# Altium footprint library atmel.PCBLIB: 60 footprints (part 4 of 4)
Each footprint in its own frame and in the unit in brackets; x right, y up, seen from the top. Pads: shape width x height; smd on the part's side, far side on the other; paste and mask are expansions set on the pad; w line width, h text height; cw(c..) or ccw(c..) is an arc to the next point about the centre after c.
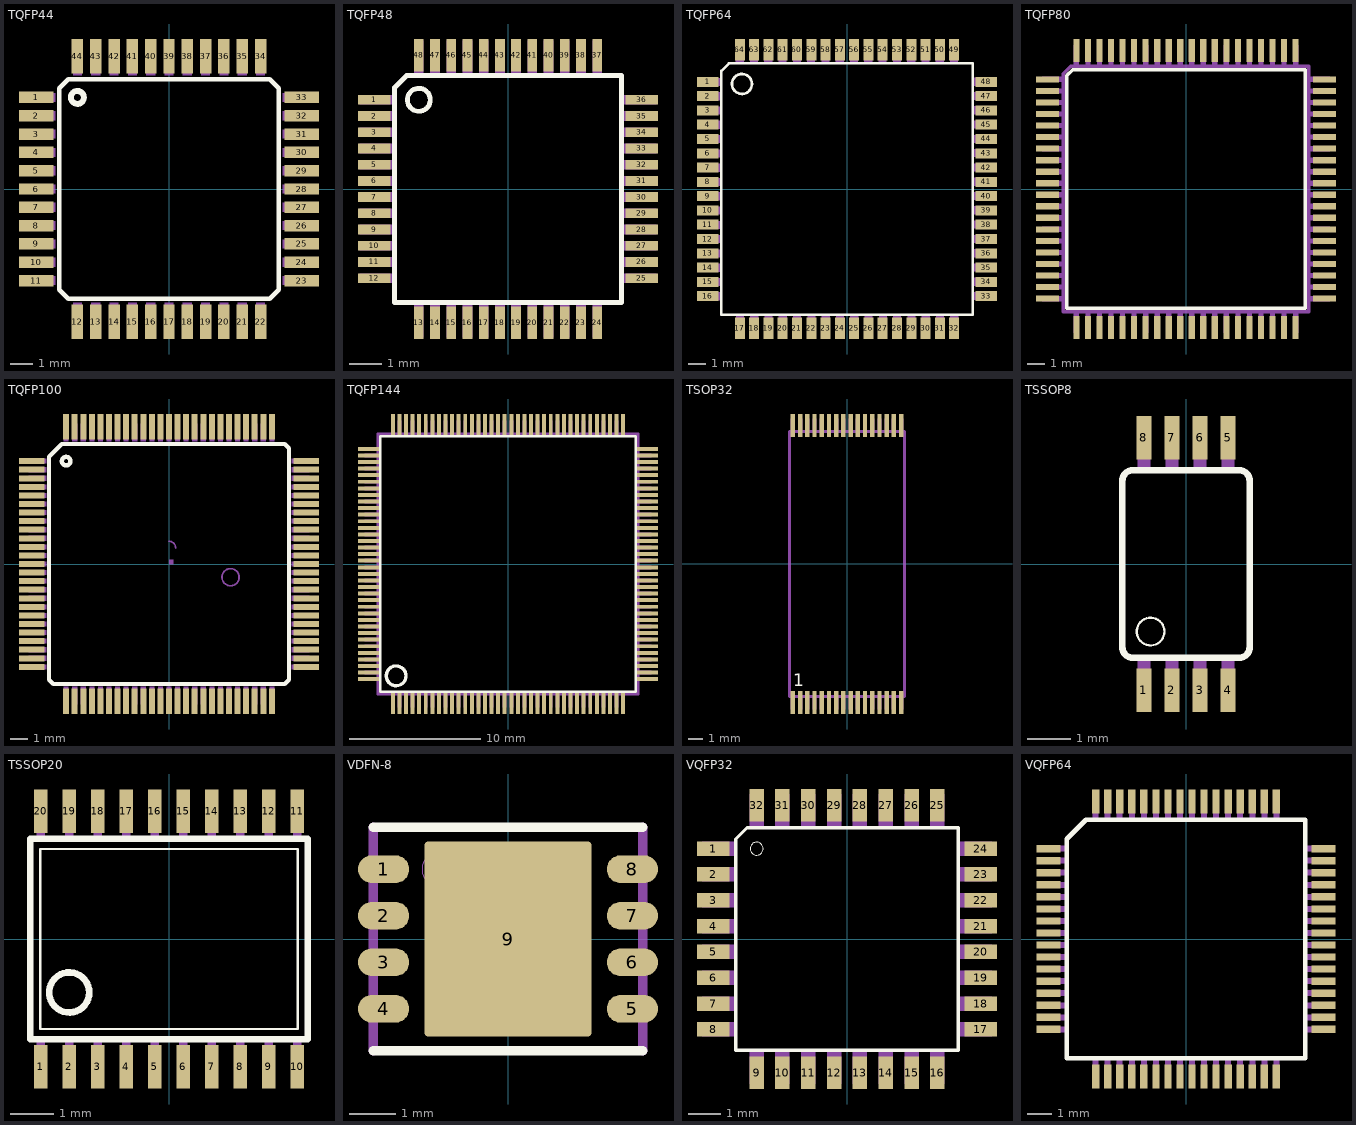
[diagram p3: the footprints below, top view; thin cyan lines are the x and y axes]

## TQFP44 [mm]
pads (44):
  rect 1.5x0.5 smd: 1(-5.8,4) 2(-5.8,3.2) 3(-5.8,2.4) 4(-5.8,1.6) 5(-5.8,0.8) 6(-5.8,0) 7(-5.8,-0.8) 8(-5.8,-1.6) 9(-5.8,-2.4) 10(-5.8,-3.2) 11(-5.8,-4) 23(5.8,-4) 24(5.8,-3.2) 25(5.8,-2.4) 26(5.8,-1.6) 27(5.8,-0.8) 28(5.8,0) 29(5.8,0.8) 30(5.8,1.6) 31(5.8,2.4) 32(5.8,3.2) 33(5.8,4)
  rect 0.5x1.5 smd: 12(-4,-5.8) 13(-3.2,-5.8) 14(-2.4,-5.8) 15(-1.6,-5.8) 16(-0.8,-5.8) 17(0,-5.8) 18(0.8,-5.8) 19(1.6,-5.8) 20(2.4,-5.8) 21(3.2,-5.8) 22(4,-5.8) 34(4,5.8) 35(3.2,5.8) 36(2.4,5.8) 37(1.6,5.8) 38(0.8,5.8) 39(0,5.8) 40(-0.8,5.8) 41(-1.6,5.8) 42(-2.4,5.8) 43(-3.2,5.8) 44(-4,5.8)
Top Overlay:
  circle w0.254: c-4,4 r0.283
  lines w0.203: -4.8,-4.4 -4.4,-4.8 4.4,-4.8 4.8,-4.4 4.8,4.4 4.4,4.8 -4.4,4.8 -4.8,4.4 -4.8,-4.4
Mechanical 16:
  rectangle: -6.1,3.8 -4.95,4.2
  rectangle: -6.1,3 -4.95,3.4
  rectangle: -6.1,2.2 -4.95,2.6
  rectangle: -6.1,1.4 -4.95,1.8
  rectangle: -6.1,0.6 -4.95,1
  rectangle: -6.1,-0.2 -4.95,0.2
  rectangle: -6.1,-1 -4.95,-0.6
  rectangle: -6.1,-1.8 -4.95,-1.4
  rectangle: -6.1,-2.6 -4.95,-2.2
  rectangle: -6.1,-3.4 -4.95,-3
  rectangle: -6.1,-4.2 -4.95,-3.8
  rectangle: -4.2,-6.1 -3.8,-4.95
  rectangle: -3.4,-6.1 -3,-4.95
  rectangle: -2.6,-6.1 -2.2,-4.95
  rectangle: -1.8,-6.1 -1.4,-4.95
  rectangle: -1,-6.1 -0.6,-4.95
  rectangle: -0.2,-6.1 0.2,-4.95
  rectangle: 0.6,-6.1 1,-4.95
  rectangle: 1.4,-6.1 1.8,-4.95
  rectangle: 2.2,-6.1 2.6,-4.95
  rectangle: 3,-6.1 3.4,-4.95
  rectangle: 3.8,-6.1 4.2,-4.95
  rectangle: 4.95,-4.2 6.1,-3.8
  rectangle: 4.95,-3.4 6.1,-3
  rectangle: 4.95,-2.6 6.1,-2.2
  rectangle: 4.95,-1.8 6.1,-1.4
  rectangle: 4.95,-1 6.1,-0.6
  rectangle: 4.95,-0.2 6.1,0.2
  rectangle: 4.95,0.6 6.1,1
  rectangle: 4.95,1.4 6.1,1.8
  rectangle: 4.95,2.2 6.1,2.6
  rectangle: 4.95,3 6.1,3.4
  rectangle: 4.95,3.8 6.1,4.2
  rectangle: 3.8,4.95 4.2,6.1
  rectangle: 3,4.95 3.4,6.1
  rectangle: 2.2,4.95 2.6,6.1
  rectangle: 1.4,4.95 1.8,6.1
  rectangle: 0.6,4.95 1,6.1
  rectangle: -0.2,4.95 0.2,6.1
  rectangle: -1,4.95 -0.6,6.1
  rectangle: -1.8,4.95 -1.4,6.1
  rectangle: -2.6,4.95 -2.2,6.1
  rectangle: -3.4,4.95 -3,6.1
  rectangle: -4.2,4.95 -3.8,6.1

## TQFP48 [mil]
pads (48):
  rect 40x12 smd: 1(-165,110) 2(-165,90) 3(-165,70) 4(-165,50) 5(-165,30) 6(-165,10) 7(-165,-10) 8(-165,-30) 9(-165,-50) 10(-165,-70) 11(-165,-90) 12(-165,-110) 25(165,-110) 26(165,-90) 27(165,-70) 28(165,-50) 29(165,-30) 30(165,-10) 31(165,10) 32(165,30) 33(165,50) 34(165,70) 35(165,90) 36(165,110)
  rect 12x40 smd: 13(-110,-165) 14(-90,-165) 15(-70,-165) 16(-50,-165) 17(-30,-165) 18(-10,-165) 19(10,-165) 20(30,-165) 21(50,-165) 22(70,-165) 23(90,-165) 24(110,-165) 37(110,165) 38(90,165) 39(70,165) 40(50,165) 41(30,165) 42(10,165) 43(-10,165) 44(-30,165) 45(-50,165) 46(-70,165) 47(-90,165) 48(-110,165)
Top Overlay:
  circle w6: c-110,110 r14.14
  lines w6: -140,-140 140,-140 140,140 -125,140 -140,125 -140,-140
Mechanical 16:
  rectangle: 141,4 183,16
  rectangle: 141,24 183,36
  rectangle: 141,44 183,56
  rectangle: 141,64 183,76
  rectangle: 141,84 183,96
  rectangle: 141,104 183,116
  rectangle: 141,-16 183,-4
  rectangle: 141,-36 183,-24
  rectangle: 141,-56 183,-44
  rectangle: 141,-76 183,-64
  rectangle: 141,-96 183,-84
  rectangle: 141,-116 183,-104
  rectangle: -183,-16 -141,-4
  rectangle: -183,-36 -141,-24
  rectangle: -183,-56 -141,-44
  rectangle: -183,-76 -141,-64
  rectangle: -183,-96 -141,-84
  rectangle: -183,-116 -141,-104
  rectangle: -183,4 -141,16
  rectangle: -183,24 -141,36
  rectangle: -183,44 -141,56
  rectangle: -183,64 -141,76
  rectangle: -183,84 -141,96
  rectangle: -183,104 -141,116
  rectangle: -16,141 -4,183
  rectangle: -36,141 -24,183
  rectangle: -56,141 -44,183
  rectangle: -76,141 -64,183
  rectangle: -96,141 -84,183
  rectangle: -116,141 -104,183
  rectangle: 4,141 16,183
  rectangle: 24,141 36,183
  rectangle: 44,141 56,183
  rectangle: 64,141 76,183
  rectangle: 84,141 96,183
  rectangle: 104,141 116,183
  rectangle: 4,-183 16,-141
  rectangle: 24,-183 36,-141
  rectangle: 44,-183 56,-141
  rectangle: 64,-183 76,-141
  rectangle: 84,-183 96,-141
  rectangle: 104,-183 116,-141
  rectangle: -16,-183 -4,-141
  rectangle: -36,-183 -24,-141
  rectangle: -56,-183 -44,-141
  rectangle: -76,-183 -64,-141
  rectangle: -96,-183 -84,-141
  rectangle: -116,-183 -104,-141

## TQFP64 [mil]
pads (64):
  rect 47x22 smd: 1(-307.09,236.22) 2(-307.09,204.72) 3(-307.09,173.23) 4(-307.09,141.73) 5(-307.09,110.24) 6(-307.09,78.74) 7(-307.09,47.24) 8(-307.09,15.75) 9(-307.09,-15.75) 10(-307.09,-47.24) 11(-307.09,-78.74) 12(-307.09,-110.24) 13(-307.09,-141.73) 14(-307.09,-173.23) 15(-307.09,-204.72) 16(-307.09,-236.22) 33(307.09,-236.22) 34(307.09,-204.72) 35(307.09,-173.23) 36(307.09,-141.73) 37(307.09,-110.24) 38(307.09,-78.74) 39(307.09,-47.24) 40(307.09,-15.75) 41(307.09,15.75) 42(307.09,47.24) 43(307.09,78.74) 44(307.09,110.24) 45(307.09,141.73) 46(307.09,173.23) 47(307.09,204.72) 48(307.09,236.22)
  rect 22x47 smd: 17(-236.22,-307.09) 18(-204.72,-307.09) 19(-173.23,-307.09) 20(-141.73,-307.09) 21(-110.24,-307.09) 22(-78.74,-307.09) 23(-47.24,-307.09) 24(-15.75,-307.09) 25(15.75,-307.09) 26(47.24,-307.09) 27(78.74,-307.09) 28(110.24,-307.09) 29(141.73,-307.09) 30(173.23,-307.09) 31(204.72,-307.09) 32(236.22,-307.09) 49(236.22,307.09) 50(204.72,307.09) 51(173.23,307.09) 52(141.73,307.09) 53(110.24,307.09) 54(78.74,307.09) 55(47.24,307.09) 56(15.75,307.09) 57(-15.75,307.09) 58(-47.24,307.09) 59(-78.74,307.09) 60(-110.24,307.09) 61(-141.73,307.09) 62(-173.23,307.09) 63(-204.72,307.09) 64(-236.22,307.09)
Top Overlay:
  circle w6: c-231.5,231.5 r22
  lines w6: -277.01,-277.01 277.01,-277.01 277.01,277.01 -260,277.01 -277.01,260 -277.01,-277.01
Mechanical 16:
  rectangle: -322,226.97 -279,244.97
  rectangle: -322,195.48 -279,213.48
  rectangle: -322,163.98 -279,181.98
  rectangle: -322,132.48 -279,150.48
  rectangle: -322,100.99 -279,118.99
  rectangle: -322,69.49 -279,87.49
  rectangle: -322,38 -279,56
  rectangle: -322,6.5 -279,24.5
  rectangle: -322,-25 -279,-7
  rectangle: -322,-56.49 -279,-38.49
  rectangle: -322,-87.99 -279,-69.99
  rectangle: -322,-119.48 -279,-101.48
  rectangle: -322,-150.98 -279,-132.98
  rectangle: -322,-182.48 -279,-164.48
  rectangle: -322,-213.97 -279,-195.97
  rectangle: -322,-245.47 -279,-227.47
  region: -226.97,-322 -226.97,-279 -244.97,-279 -244.97,-322
  region: -195.48,-322 -195.48,-279 -213.48,-279 -213.48,-322
  region: -163.98,-322 -163.98,-279 -181.98,-279 -181.98,-322
  region: -132.48,-322 -132.48,-279 -150.48,-279 -150.48,-322
  region: -100.99,-322 -100.99,-279 -118.99,-279 -118.99,-322
  region: -69.49,-322 -69.49,-279 -87.49,-279 -87.49,-322
  region: -38,-322 -38,-279 -56,-279 -56,-322
  region: -6.5,-322 -6.5,-279 -24.5,-279 -24.5,-322
  region: 25,-322 25,-279 7,-279 7,-322
  region: 56.49,-322 56.49,-279 38.49,-279 38.49,-322
  region: 87.99,-322 87.99,-279 69.99,-279 69.99,-322
  region: 119.48,-322 119.48,-279 101.48,-279 101.48,-322
  region: 150.98,-322 150.98,-279 132.98,-279 132.98,-322
  region: 182.48,-322 182.48,-279 164.48,-279 164.48,-322
  region: 213.97,-322 213.97,-279 195.97,-279 195.97,-322
  region: 245.47,-322 245.47,-279 227.47,-279 227.47,-322
  region: 322,-226.97 279,-226.97 279,-244.97 322,-244.97
  region: 322,-195.48 279,-195.48 279,-213.48 322,-213.48
  region: 322,-163.98 279,-163.98 279,-181.98 322,-181.98
  region: 322,-132.48 279,-132.48 279,-150.48 322,-150.48
  region: 322,-100.99 279,-100.99 279,-118.99 322,-118.99
  region: 322,-69.49 279,-69.49 279,-87.49 322,-87.49
  region: 322,-38 279,-38 279,-56 322,-56
  region: 322,-6.5 279,-6.5 279,-24.5 322,-24.5
  region: 322,25 279,25 279,7 322,7
  region: 322,56.49 279,56.49 279,38.49 322,38.49
  region: 322,87.99 279,87.99 279,69.99 322,69.99
  region: 322,119.48 279,119.48 279,101.48 322,101.48
  region: 322,150.98 279,150.98 279,132.98 322,132.98
  region: 322,182.48 279,182.48 279,164.48 322,164.48
  region: 322,213.97 279,213.97 279,195.97 322,195.97
  region: 322,245.47 279,245.47 279,227.47 322,227.47
  region: 226.97,322 226.97,279 244.97,279 244.97,322
  region: 195.48,322 195.48,279 213.48,279 213.48,322
  region: 163.98,322 163.98,279 181.98,279 181.98,322
  region: 132.48,322 132.48,279 150.48,279 150.48,322
  region: 100.99,322 100.99,279 118.99,279 118.99,322
  region: 69.49,322 69.49,279 87.49,279 87.49,322
  region: 38,322 38,279 56,279 56,322
  region: 6.5,322 6.5,279 24.5,279 24.5,322
  region: -25,322 -25,279 -7,279 -7,322
  region: -56.49,322 -56.49,279 -38.49,279 -38.49,322
  region: -87.99,322 -87.99,279 -69.99,279 -69.99,322
  region: -119.48,322 -119.48,279 -101.48,279 -101.48,322
  region: -150.98,322 -150.98,279 -132.98,279 -132.98,322
  region: -182.48,322 -182.48,279 -164.48,279 -164.48,322
  region: -213.97,322 -213.97,279 -195.97,279 -195.97,322
  region: -245.47,322 -245.47,279 -227.47,279 -227.47,322

## TQFP80 [mm]
pads (80):
  rect 1.3x0.35 smd: 1(-7.8,6.175) 2(-7.8,5.525) 3(-7.8,4.875) 4(-7.8,4.225) 5(-7.8,3.575) 6(-7.8,2.925) 7(-7.8,2.275) 8(-7.8,1.625) 9(-7.8,0.975) 10(-7.8,0.325) 11(-7.8,-0.325) 12(-7.8,-0.975) 13(-7.8,-1.625) 14(-7.8,-2.275) 15(-7.8,-2.925) 16(-7.8,-3.575) 17(-7.8,-4.225) 18(-7.8,-4.875) 19(-7.8,-5.525) 20(-7.8,-6.175) 41(7.8,-6.175) 42(7.8,-5.525) 43(7.8,-4.875) 44(7.8,-4.225) 45(7.8,-3.575) 46(7.8,-2.925) 47(7.8,-2.275) 48(7.8,-1.625) 49(7.8,-0.975) 50(7.8,-0.325) 51(7.8,0.325) 52(7.8,0.975) 53(7.8,1.625) 54(7.8,2.275) 55(7.8,2.925) 56(7.8,3.575) 57(7.8,4.225) 58(7.8,4.875) 59(7.8,5.525) 60(7.8,6.175)
  rect 0.35x1.3 smd: 21(-6.175,-7.8) 22(-5.525,-7.8) 23(-4.875,-7.8) 24(-4.225,-7.8) 25(-3.575,-7.8) 26(-2.925,-7.8) 27(-2.275,-7.8) 28(-1.625,-7.8) 29(-0.975,-7.8) 30(-0.325,-7.8) 31(0.325,-7.8) 32(0.975,-7.8) 33(1.625,-7.8) 34(2.275,-7.8) 35(2.925,-7.8) 36(3.575,-7.8) 37(4.225,-7.8) 38(4.875,-7.8) 39(5.525,-7.8) 40(6.175,-7.8) 61(6.175,7.8) 62(5.525,7.8) 63(4.875,7.8) 64(4.225,7.8) 65(3.575,7.8) 66(2.925,7.8) 67(2.275,7.8) 68(1.625,7.8) 69(0.975,7.8) 70(0.325,7.8) 71(-0.325,7.8) 72(-0.975,7.8) 73(-1.625,7.8) 74(-2.275,7.8) 75(-2.925,7.8) 76(-3.575,7.8) 77(-4.225,7.8) 78(-4.875,7.8) 79(-5.525,7.8) 80(-6.175,7.8)
Top Overlay:
  lines w0.203: -6.71,-6.71 6.71,-6.71 6.71,6.72 -6.38,6.72 -6.71,6.39 -6.71,-6.71
Mechanical 16:
  region: 6.025,8.1 6.025,6.9 6.325,6.9 6.325,8.1
  region: 5.375,8.1 5.375,6.9 5.675,6.9 5.675,8.1
  region: 4.725,8.1 4.725,6.9 5.025,6.9 5.025,8.1
  region: 4.075,8.1 4.075,6.9 4.375,6.9 4.375,8.1
  region: 3.425,8.1 3.425,6.9 3.725,6.9 3.725,8.1
  region: 2.775,8.1 2.775,6.9 3.075,6.9 3.075,8.1
  region: 2.125,8.1 2.125,6.9 2.425,6.9 2.425,8.1
  region: 1.475,8.1 1.475,6.9 1.775,6.9 1.775,8.1
  region: 0.825,8.1 0.825,6.9 1.125,6.9 1.125,8.1
  region: 0.175,8.1 0.175,6.9 0.475,6.9 0.475,8.1
  region: -0.475,8.1 -0.475,6.9 -0.175,6.9 -0.175,8.1
  region: -1.125,8.1 -1.125,6.9 -0.825,6.9 -0.825,8.1
  region: -1.775,8.1 -1.775,6.9 -1.475,6.9 -1.475,8.1
  region: -2.425,8.1 -2.425,6.9 -2.125,6.9 -2.125,8.1
  region: -3.075,8.1 -3.075,6.9 -2.775,6.9 -2.775,8.1
  region: -3.725,8.1 -3.725,6.9 -3.425,6.9 -3.425,8.1
  region: -4.375,8.1 -4.375,6.9 -4.075,6.9 -4.075,8.1
  region: -5.025,8.1 -5.025,6.9 -4.725,6.9 -4.725,8.1
  region: -5.675,8.1 -5.675,6.9 -5.375,6.9 -5.375,8.1
  region: -6.325,8.1 -6.325,6.9 -6.025,6.9 -6.025,8.1
  rectangle: -8.1,6.025 -6.9,6.325
  rectangle: -8.1,5.375 -6.9,5.675
  rectangle: -8.1,4.725 -6.9,5.025
  rectangle: -8.1,4.075 -6.9,4.375
  rectangle: -8.1,3.425 -6.9,3.725
  rectangle: -8.1,2.775 -6.9,3.075
  rectangle: -8.1,2.125 -6.9,2.425
  rectangle: -8.1,1.475 -6.9,1.775
  rectangle: -8.1,0.825 -6.9,1.125
  rectangle: -8.1,0.175 -6.9,0.475
  rectangle: -8.1,-0.475 -6.9,-0.175
  rectangle: -8.1,-1.125 -6.9,-0.825
  rectangle: -8.1,-1.775 -6.9,-1.475
  rectangle: -8.1,-2.425 -6.9,-2.125
  rectangle: -8.1,-3.075 -6.9,-2.775
  rectangle: -8.1,-3.725 -6.9,-3.425
  rectangle: -8.1,-4.375 -6.9,-4.075
  rectangle: -8.1,-5.025 -6.9,-4.725
  rectangle: -8.1,-5.675 -6.9,-5.375
  rectangle: -8.1,-6.325 -6.9,-6.025
  region: -6.025,-8.1 -6.025,-6.9 -6.325,-6.9 -6.325,-8.1
  region: -5.375,-8.1 -5.375,-6.9 -5.675,-6.9 -5.675,-8.1
  region: -4.725,-8.1 -4.725,-6.9 -5.025,-6.9 -5.025,-8.1
  region: -4.075,-8.1 -4.075,-6.9 -4.375,-6.9 -4.375,-8.1
  region: -3.425,-8.1 -3.425,-6.9 -3.725,-6.9 -3.725,-8.1
  region: -2.775,-8.1 -2.775,-6.9 -3.075,-6.9 -3.075,-8.1
  region: -2.125,-8.1 -2.125,-6.9 -2.425,-6.9 -2.425,-8.1
  region: -1.475,-8.1 -1.475,-6.9 -1.775,-6.9 -1.775,-8.1
  region: -0.825,-8.1 -0.825,-6.9 -1.125,-6.9 -1.125,-8.1
  region: -0.175,-8.1 -0.175,-6.9 -0.475,-6.9 -0.475,-8.1
  region: 0.475,-8.1 0.475,-6.9 0.175,-6.9 0.175,-8.1
  region: 1.125,-8.1 1.125,-6.9 0.825,-6.9 0.825,-8.1
  region: 1.775,-8.1 1.775,-6.9 1.475,-6.9 1.475,-8.1
  region: 2.425,-8.1 2.425,-6.9 2.125,-6.9 2.125,-8.1
  region: 3.075,-8.1 3.075,-6.9 2.775,-6.9 2.775,-8.1
  region: 3.725,-8.1 3.725,-6.9 3.425,-6.9 3.425,-8.1
  region: 4.375,-8.1 4.375,-6.9 4.075,-6.9 4.075,-8.1
  region: 5.025,-8.1 5.025,-6.9 4.725,-6.9 4.725,-8.1
  region: 5.675,-8.1 5.675,-6.9 5.375,-6.9 5.375,-8.1
  region: 6.325,-8.1 6.325,-6.9 6.025,-6.9 6.025,-8.1
  region: 8.1,-6.025 6.9,-6.025 6.9,-6.325 8.1,-6.325
  region: 8.1,-5.375 6.9,-5.375 6.9,-5.675 8.1,-5.675
  region: 8.1,-4.725 6.9,-4.725 6.9,-5.025 8.1,-5.025
  region: 8.1,-4.075 6.9,-4.075 6.9,-4.375 8.1,-4.375
  region: 8.1,-3.425 6.9,-3.425 6.9,-3.725 8.1,-3.725
  region: 8.1,-2.775 6.9,-2.775 6.9,-3.075 8.1,-3.075
  region: 8.1,-2.125 6.9,-2.125 6.9,-2.425 8.1,-2.425
  region: 8.1,-1.475 6.9,-1.475 6.9,-1.775 8.1,-1.775
  region: 8.1,-0.825 6.9,-0.825 6.9,-1.125 8.1,-1.125
  region: 8.1,-0.175 6.9,-0.175 6.9,-0.475 8.1,-0.475
  region: 8.1,0.475 6.9,0.475 6.9,0.175 8.1,0.175
  region: 8.1,1.125 6.9,1.125 6.9,0.825 8.1,0.825
  region: 8.1,1.775 6.9,1.775 6.9,1.475 8.1,1.475
  region: 8.1,2.425 6.9,2.425 6.9,2.125 8.1,2.125
  region: 8.1,3.075 6.9,3.075 6.9,2.775 8.1,2.775
  region: 8.1,3.725 6.9,3.725 6.9,3.425 8.1,3.425
  region: 8.1,4.375 6.9,4.375 6.9,4.075 8.1,4.075
  region: 8.1,5.025 6.9,5.025 6.9,4.725 8.1,4.725
  region: 8.1,5.675 6.9,5.675 6.9,5.375 8.1,5.375
  region: 8.1,6.325 6.9,6.325 6.9,6.025 8.1,6.025
  lines w0.203: -6.91,-6.91 -6.91,6.49 -6.49,6.91 6.91,6.91 6.91,-6.91 -6.91,-6.91

## TQFP100 [mm]
pads (100):
  rect 1.5x0.35 smd: 1(-8,6) 2(-8,5.5) 3(-8,5) 4(-8,4.5) 5(-8,4) 6(-8,3.5) 7(-8,3) 8(-8,2.5) 9(-8,2) 10(-8,1.5) 11(-8,1) 12(-8,0.5) 13(-8,0) 14(-8,-0.5) 15(-8,-1) 16(-8,-1.5) 17(-8,-2) 18(-8,-2.5) 19(-8,-3) 20(-8,-3.5) 21(-8,-4) 22(-8,-4.5) 23(-8,-5) 24(-8,-5.5) 25(-8,-6) 51(8,-6) 52(8,-5.5) 53(8,-5) 54(8,-4.5) 55(8,-4) 56(8,-3.5) 57(8,-3) 58(8,-2.5) 59(8,-2) 60(8,-1.5) 61(8,-1) 62(8,-0.5) 63(8,0) 64(8,0.5) 65(8,1) 66(8,1.5) 67(8,2) 68(8,2.5) 69(8,3) 70(8,3.5) 71(8,4) 72(8,4.5) 73(8,5) 74(8,5.5) 75(8,6)
  rect 0.35x1.5 smd: 26(-6,-8) 27(-5.5,-8) 28(-5,-8) 29(-4.5,-8) 30(-4,-8) 31(-3.5,-8) 32(-3,-8) 33(-2.5,-8) 34(-2,-8) 35(-1.5,-8) 36(-1,-8) 37(-0.5,-8) 38(0,-8) 39(0.5,-8) 40(1,-8) 41(1.5,-8) 42(2,-8) 43(2.5,-8) 44(3,-8) 45(3.5,-8) 46(4,-8) 47(4.5,-8) 48(5,-8) 49(5.5,-8) 50(6,-8) 76(6,8) 77(5.5,8) 78(5,8) 79(4.5,8) 80(4,8) 81(3.5,8) 82(3,8) 83(2.5,8) 84(2,8) 85(1.5,8) 86(1,8) 87(0.5,8) 88(0,8) 89(-0.5,8) 90(-1,8) 91(-1.5,8) 92(-2,8) 93(-2.5,8) 94(-3,8) 95(-3.5,8) 96(-4,8) 97(-4.5,8) 98(-5,8) 99(-5.5,8) 100(-6,8)
Top Overlay:
  circle w0.254: c-6,6 r0.25
  lines w0.254: -7,-6.75 -6.75,-7 6.75,-7 7,-6.75 7,6.75 6.75,7 -6.25,7 -7,6.25 -7,-6.75
Mechanical 16:
  circle w0.102: c3.59,-0.77 r0.5
  rectangle: -8.2,5.85 -7.15,6.15
  rectangle: -8.2,5.35 -7.15,5.65
  rectangle: -8.2,4.85 -7.15,5.15
  rectangle: -8.2,4.35 -7.15,4.65
  rectangle: -8.2,3.85 -7.15,4.15
  rectangle: -8.2,3.35 -7.15,3.65
  rectangle: -8.2,2.85 -7.15,3.15
  rectangle: -8.2,2.35 -7.15,2.65
  rectangle: -8.2,1.85 -7.15,2.15
  rectangle: -8.2,1.35 -7.15,1.65
  rectangle: -8.2,0.85 -7.15,1.15
  rectangle: -8.2,0.35 -7.15,0.65
  rectangle: -8.2,-0.15 -7.15,0.15
  rectangle: -8.2,-0.65 -7.15,-0.35
  rectangle: -8.2,-1.15 -7.15,-0.85
  rectangle: -8.2,-1.65 -7.15,-1.35
  rectangle: -8.2,-2.15 -7.15,-1.85
  rectangle: -8.2,-2.65 -7.15,-2.35
  rectangle: -8.2,-3.15 -7.15,-2.85
  rectangle: -8.2,-3.65 -7.15,-3.35
  rectangle: -8.2,-4.15 -7.15,-3.85
  rectangle: -8.2,-4.65 -7.15,-4.35
  rectangle: -8.2,-5.15 -7.15,-4.85
  rectangle: -8.2,-5.65 -7.15,-5.35
  rectangle: -8.2,-6.15 -7.15,-5.85
  rectangle: -6.15,-8.2 -5.85,-7.15
  rectangle: -5.65,-8.2 -5.35,-7.15
  rectangle: -5.15,-8.2 -4.85,-7.15
  rectangle: -4.65,-8.2 -4.35,-7.15
  rectangle: -4.15,-8.2 -3.85,-7.15
  rectangle: -3.65,-8.2 -3.35,-7.15
  rectangle: -3.15,-8.2 -2.85,-7.15
  rectangle: -2.65,-8.2 -2.35,-7.15
  rectangle: -2.15,-8.2 -1.85,-7.15
  rectangle: -1.65,-8.2 -1.35,-7.15
  rectangle: -1.15,-8.2 -0.85,-7.15
  rectangle: -0.65,-8.2 -0.35,-7.15
  rectangle: -0.15,-8.2 0.15,-7.15
  rectangle: 0.35,-8.2 0.65,-7.15
  rectangle: 0.85,-8.2 1.15,-7.15
  rectangle: 1.35,-8.2 1.65,-7.15
  rectangle: 1.85,-8.2 2.15,-7.15
  rectangle: 2.35,-8.2 2.65,-7.15
  rectangle: 2.85,-8.2 3.15,-7.15
  rectangle: 3.35,-8.2 3.65,-7.15
  rectangle: 3.85,-8.2 4.15,-7.15
  rectangle: 4.35,-8.2 4.65,-7.15
  rectangle: 4.85,-8.2 5.15,-7.15
  rectangle: 5.35,-8.2 5.65,-7.15
  rectangle: 5.85,-8.2 6.15,-7.15
  rectangle: 7.15,-6.15 8.2,-5.85
  rectangle: 7.15,-5.65 8.2,-5.35
  rectangle: 7.15,-5.15 8.2,-4.85
  rectangle: 7.15,-4.65 8.2,-4.35
  rectangle: 7.15,-4.15 8.2,-3.85
  rectangle: 7.15,-3.65 8.2,-3.35
  rectangle: 7.15,-3.15 8.2,-2.85
  rectangle: 7.15,-2.65 8.2,-2.35
  rectangle: 7.15,-2.15 8.2,-1.85
  rectangle: 7.15,-1.65 8.2,-1.35
  rectangle: 7.15,-1.15 8.2,-0.85
  rectangle: 7.15,-0.65 8.2,-0.35
  rectangle: 7.15,-0.15 8.2,0.15
  rectangle: 7.15,0.35 8.2,0.65
  rectangle: 7.15,0.85 8.2,1.15
  rectangle: 7.15,1.35 8.2,1.65
  rectangle: 7.15,1.85 8.2,2.15
  rectangle: 7.15,2.35 8.2,2.65
  rectangle: 7.15,2.85 8.2,3.15
  rectangle: 7.15,3.35 8.2,3.65
  rectangle: 7.15,3.85 8.2,4.15
  rectangle: 7.15,4.35 8.2,4.65
  rectangle: 7.15,4.85 8.2,5.15
  rectangle: 7.15,5.35 8.2,5.65
  rectangle: 7.15,5.85 8.2,6.15
  rectangle: 5.85,7.15 6.15,8.2
  rectangle: 5.35,7.15 5.65,8.2
  rectangle: 4.85,7.15 5.15,8.2
  rectangle: 4.35,7.15 4.65,8.2
  rectangle: 3.85,7.15 4.15,8.2
  rectangle: 3.35,7.15 3.65,8.2
  rectangle: 2.85,7.15 3.15,8.2
  rectangle: 2.35,7.15 2.65,8.2
  rectangle: 1.85,7.15 2.15,8.2
  rectangle: 1.35,7.15 1.65,8.2
  rectangle: 0.85,7.15 1.15,8.2
  rectangle: 0.35,7.15 0.65,8.2
  rectangle: -0.15,7.15 0.15,8.2
  rectangle: -0.65,7.15 -0.35,8.2
  rectangle: -1.15,7.15 -0.85,8.2
  rectangle: -1.65,7.15 -1.35,8.2
  rectangle: -2.15,7.15 -1.85,8.2
  rectangle: -2.65,7.15 -2.35,8.2
  rectangle: -3.15,7.15 -2.85,8.2
  rectangle: -3.65,7.15 -3.35,8.2
  rectangle: -4.15,7.15 -3.85,8.2
  rectangle: -4.65,7.15 -4.35,8.2
  rectangle: -5.15,7.15 -4.85,8.2
  rectangle: -5.65,7.15 -5.35,8.2
  rectangle: -6.15,7.15 -5.85,8.2
  region: 0,0 0.254,0 0.254,0.254 0,0.254
  region: 0,0 0.254,0 0.254,0.254 0,0.254
  region: 0,0 0.254,0 0.254,0.254 0,0.254
  region: 0,0 0.254,0 0.254,0.254 0,0.254
  region: 0,0 0.254,0 0.254,0.254 0,0.254
  region: 0,0 0.254,0 0.254,0.254 0,0.254
  lines w0.102: -0.01,1.33 cw(c-0.01,0.93) 0.39,0.93
  text "TQFP 100" at -2.75,-2.5 h1.26
  text "R" at 3.39,-1.07 h0.94

## TQFP144 [mm]
pads (144):
  rect 0.3x1.6 smd: 1(-8.75,-10.6) 2(-8.25,-10.6) 3(-7.75,-10.6) 4(-7.25,-10.6) 5(-6.75,-10.6) 6(-6.25,-10.6) 7(-5.75,-10.6) 8(-5.25,-10.6) 9(-4.75,-10.6) 10(-4.25,-10.6) 11(-3.75,-10.6) 12(-3.25,-10.6) 13(-2.75,-10.6) 14(-2.25,-10.6) 15(-1.75,-10.6) 16(-1.25,-10.6) 17(-0.75,-10.6) 18(-0.25,-10.6) 19(0.25,-10.6) 20(0.75,-10.6) 21(1.25,-10.6) 22(1.75,-10.6) 23(2.25,-10.6) 24(2.75,-10.6) 25(3.25,-10.6) 26(3.75,-10.6) 27(4.25,-10.6) 28(4.75,-10.6) 29(5.25,-10.6) 30(5.75,-10.6) 31(6.25,-10.6) 32(6.75,-10.6) 33(7.25,-10.6) 34(7.75,-10.6) 35(8.25,-10.6) 36(8.75,-10.6) 73(8.75,10.6) 74(8.25,10.6) 75(7.75,10.6) 76(7.25,10.6) 77(6.75,10.6) 78(6.25,10.6) 79(5.75,10.6) 80(5.25,10.6) 81(4.75,10.6) 82(4.25,10.6) 83(3.75,10.6) 84(3.25,10.6) 85(2.75,10.6) 86(2.25,10.6) 87(1.75,10.6) 88(1.25,10.6) 89(0.75,10.6) 90(0.25,10.6) 91(-0.25,10.6) 92(-0.75,10.6) 93(-1.25,10.6) 94(-1.75,10.6) 95(-2.25,10.6) 96(-2.75,10.6) 97(-3.25,10.6) 98(-3.75,10.6) 99(-4.25,10.6) 100(-4.75,10.6) 101(-5.25,10.6) 102(-5.75,10.6) 103(-6.25,10.6) 104(-6.75,10.6) 105(-7.25,10.6) 106(-7.75,10.6) 107(-8.25,10.6) 108(-8.75,10.6)
  rect 1.6x0.3 smd: 37(10.6,-8.75) 38(10.6,-8.25) 39(10.6,-7.75) 40(10.6,-7.25) 41(10.6,-6.75) 42(10.6,-6.25) 43(10.6,-5.75) 44(10.6,-5.25) 45(10.6,-4.75) 46(10.6,-4.25) 47(10.6,-3.75) 48(10.6,-3.25) 49(10.6,-2.75) 50(10.6,-2.25) 51(10.6,-1.75) 52(10.6,-1.25) 53(10.6,-0.75) 54(10.6,-0.25) 55(10.6,0.25) 56(10.6,0.75) 57(10.6,1.25) 58(10.6,1.75) 59(10.6,2.25) 60(10.6,2.75) 61(10.6,3.25) 62(10.6,3.75) 63(10.6,4.25) 64(10.6,4.75) 65(10.6,5.25) 66(10.6,5.75) 67(10.6,6.25) 68(10.6,6.75) 69(10.6,7.25) 70(10.6,7.75) 71(10.6,8.25) 72(10.6,8.75) 109(-10.6,8.75) 110(-10.6,8.25) 111(-10.6,7.75) 112(-10.6,7.25) 113(-10.6,6.75) 114(-10.6,6.25) 115(-10.6,5.75) 116(-10.6,5.25) 117(-10.6,4.75) 118(-10.6,4.25) 119(-10.6,3.75) 120(-10.6,3.25) 121(-10.6,2.75) 122(-10.6,2.25) 123(-10.6,1.75) 124(-10.6,1.25) 125(-10.6,0.75) 126(-10.6,0.25) 127(-10.6,-0.25) 128(-10.6,-0.75) 129(-10.6,-1.25) 130(-10.6,-1.75) 131(-10.6,-2.25) 132(-10.6,-2.75) 133(-10.6,-3.25) 134(-10.6,-3.75) 135(-10.6,-4.25) 136(-10.6,-4.75) 137(-10.6,-5.25) 138(-10.6,-5.75) 139(-10.6,-6.25) 140(-10.6,-6.75) 141(-10.6,-7.25) 142(-10.6,-7.75) 143(-10.6,-8.25) 144(-10.6,-8.75)
Top Overlay:
  circle w0.254: c-8.5,-8.5 r0.75
  lines w0.203: -9.72,-9.71 9.71,-9.71 9.71,9.71 -9.72,9.71 -9.72,-9.71
Mechanical 16:
  rectangle: -8.9,-10.9 -8.6,-9.95
  rectangle: -8.4,-10.9 -8.1,-9.95
  rectangle: -7.9,-10.9 -7.6,-9.95
  rectangle: -7.4,-10.9 -7.1,-9.95
  rectangle: -6.9,-10.9 -6.6,-9.95
  rectangle: -6.4,-10.9 -6.1,-9.95
  rectangle: -5.9,-10.9 -5.6,-9.95
  rectangle: -5.4,-10.9 -5.1,-9.95
  rectangle: -4.9,-10.9 -4.6,-9.95
  rectangle: -4.4,-10.9 -4.1,-9.95
  rectangle: -3.9,-10.9 -3.6,-9.95
  rectangle: -3.4,-10.9 -3.1,-9.95
  rectangle: -2.9,-10.9 -2.6,-9.95
  rectangle: -2.4,-10.9 -2.1,-9.95
  rectangle: -1.9,-10.9 -1.6,-9.95
  rectangle: -1.4,-10.9 -1.1,-9.95
  rectangle: -0.9,-10.9 -0.6,-9.95
  rectangle: -0.4,-10.9 -0.1,-9.95
  rectangle: 0.1,-10.9 0.4,-9.95
  rectangle: 0.6,-10.9 0.9,-9.95
  rectangle: 1.1,-10.9 1.4,-9.95
  rectangle: 1.6,-10.9 1.9,-9.95
  rectangle: 2.1,-10.9 2.4,-9.95
  rectangle: 2.6,-10.9 2.9,-9.95
  rectangle: 3.1,-10.9 3.4,-9.95
  rectangle: 3.6,-10.9 3.9,-9.95
  rectangle: 4.1,-10.9 4.4,-9.95
  rectangle: 4.6,-10.9 4.9,-9.95
  rectangle: 5.1,-10.9 5.4,-9.95
  rectangle: 5.6,-10.9 5.9,-9.95
  rectangle: 6.1,-10.9 6.4,-9.95
  rectangle: 6.6,-10.9 6.9,-9.95
  rectangle: 7.1,-10.9 7.4,-9.95
  rectangle: 7.6,-10.9 7.9,-9.95
  rectangle: 8.1,-10.9 8.4,-9.95
  rectangle: 8.6,-10.9 8.9,-9.95
  rectangle: 9.95,-8.9 10.9,-8.6
  rectangle: 9.95,-8.4 10.9,-8.1
  rectangle: 9.95,-7.9 10.9,-7.6
  rectangle: 9.95,-7.4 10.9,-7.1
  rectangle: 9.95,-6.9 10.9,-6.6
  rectangle: 9.95,-6.4 10.9,-6.1
  rectangle: 9.95,-5.9 10.9,-5.6
  rectangle: 9.95,-5.4 10.9,-5.1
  rectangle: 9.95,-4.9 10.9,-4.6
  rectangle: 9.95,-4.4 10.9,-4.1
  rectangle: 9.95,-3.9 10.9,-3.6
  rectangle: 9.95,-3.4 10.9,-3.1
  rectangle: 9.95,-2.9 10.9,-2.6
  rectangle: 9.95,-2.4 10.9,-2.1
  rectangle: 9.95,-1.9 10.9,-1.6
  rectangle: 9.95,-1.4 10.9,-1.1
  rectangle: 9.95,-0.9 10.9,-0.6
  rectangle: 9.95,-0.4 10.9,-0.1
  rectangle: 9.95,0.1 10.9,0.4
  rectangle: 9.95,0.6 10.9,0.9
  rectangle: 9.95,1.1 10.9,1.4
  rectangle: 9.95,1.6 10.9,1.9
  rectangle: 9.95,2.1 10.9,2.4
  rectangle: 9.95,2.6 10.9,2.9
  rectangle: 9.95,3.1 10.9,3.4
  rectangle: 9.95,3.6 10.9,3.9
  rectangle: 9.95,4.1 10.9,4.4
  rectangle: 9.95,4.6 10.9,4.9
  rectangle: 9.95,5.1 10.9,5.4
  rectangle: 9.95,5.6 10.9,5.9
  rectangle: 9.95,6.1 10.9,6.4
  rectangle: 9.95,6.6 10.9,6.9
  rectangle: 9.95,7.1 10.9,7.4
  rectangle: 9.95,7.6 10.9,7.9
  rectangle: 9.95,8.1 10.9,8.4
  rectangle: 9.95,8.6 10.9,8.9
  rectangle: 8.6,9.95 8.9,10.9
  rectangle: 8.1,9.95 8.4,10.9
  rectangle: 7.6,9.95 7.9,10.9
  rectangle: 7.1,9.95 7.4,10.9
  rectangle: 6.6,9.95 6.9,10.9
  rectangle: 6.1,9.95 6.4,10.9
  rectangle: 5.6,9.95 5.9,10.9
  rectangle: 5.1,9.95 5.4,10.9
  rectangle: 4.6,9.95 4.9,10.9
  rectangle: 4.1,9.95 4.4,10.9
  rectangle: 3.6,9.95 3.9,10.9
  rectangle: 3.1,9.95 3.4,10.9
  rectangle: 2.6,9.95 2.9,10.9
  rectangle: 2.1,9.95 2.4,10.9
  rectangle: 1.6,9.95 1.9,10.9
  rectangle: 1.1,9.95 1.4,10.9
  rectangle: 0.6,9.95 0.9,10.9
  rectangle: 0.1,9.95 0.4,10.9
  rectangle: -0.4,9.95 -0.1,10.9
  rectangle: -0.9,9.95 -0.6,10.9
  rectangle: -1.4,9.95 -1.1,10.9
  rectangle: -1.9,9.95 -1.6,10.9
  rectangle: -2.4,9.95 -2.1,10.9
  rectangle: -2.9,9.95 -2.6,10.9
  rectangle: -3.4,9.95 -3.1,10.9
  rectangle: -3.9,9.95 -3.6,10.9
  rectangle: -4.4,9.95 -4.1,10.9
  rectangle: -4.9,9.95 -4.6,10.9
  rectangle: -5.4,9.95 -5.1,10.9
  rectangle: -5.9,9.95 -5.6,10.9
  rectangle: -6.4,9.95 -6.1,10.9
  rectangle: -6.9,9.95 -6.6,10.9
  rectangle: -7.4,9.95 -7.1,10.9
  rectangle: -7.9,9.95 -7.6,10.9
  rectangle: -8.4,9.95 -8.1,10.9
  rectangle: -8.9,9.95 -8.6,10.9
  rectangle: -10.9,8.6 -9.95,8.9
  rectangle: -10.9,8.1 -9.95,8.4
  rectangle: -10.9,7.6 -9.95,7.9
  rectangle: -10.9,7.1 -9.95,7.4
  rectangle: -10.9,6.6 -9.95,6.9
  rectangle: -10.9,6.1 -9.95,6.4
  rectangle: -10.9,5.6 -9.95,5.9
  rectangle: -10.9,5.1 -9.95,5.4
  rectangle: -10.9,4.6 -9.95,4.9
  rectangle: -10.9,4.1 -9.95,4.4
  rectangle: -10.9,3.6 -9.95,3.9
  rectangle: -10.9,3.1 -9.95,3.4
  rectangle: -10.9,2.6 -9.95,2.9
  rectangle: -10.9,2.1 -9.95,2.4
  rectangle: -10.9,1.6 -9.95,1.9
  rectangle: -10.9,1.1 -9.95,1.4
  rectangle: -10.9,0.6 -9.95,0.9
  rectangle: -10.9,0.1 -9.95,0.4
  rectangle: -10.9,-0.4 -9.95,-0.1
  rectangle: -10.9,-0.9 -9.95,-0.6
  rectangle: -10.9,-1.4 -9.95,-1.1
  rectangle: -10.9,-1.9 -9.95,-1.6
  rectangle: -10.9,-2.4 -9.95,-2.1
  rectangle: -10.9,-2.9 -9.95,-2.6
  rectangle: -10.9,-3.4 -9.95,-3.1
  rectangle: -10.9,-3.9 -9.95,-3.6
  rectangle: -10.9,-4.4 -9.95,-4.1
  rectangle: -10.9,-4.9 -9.95,-4.6
  rectangle: -10.9,-5.4 -9.95,-5.1
  rectangle: -10.9,-5.9 -9.95,-5.6
  rectangle: -10.9,-6.4 -9.95,-6.1
  rectangle: -10.9,-6.9 -9.95,-6.6
  rectangle: -10.9,-7.4 -9.95,-7.1
  rectangle: -10.9,-7.9 -9.95,-7.6
  rectangle: -10.9,-8.4 -9.95,-8.1
  rectangle: -10.9,-8.9 -9.95,-8.6
  lines w0.203: -9.91,-9.91 9.91,-9.91 9.91,9.91 -9.91,9.91 -9.91,-9.91

## TSOP32 [mm]
pads (32):
  rect 0.3x1.6 smd: 1(-3.75,-9.6) 2(-3.25,-9.6) 3(-2.75,-9.6) 4(-2.25,-9.6) 5(-1.75,-9.6) 6(-1.25,-9.6) 7(-0.75,-9.6) 8(-0.25,-9.6) 9(0.25,-9.6) 10(0.75,-9.6) 11(1.25,-9.6) 12(1.75,-9.6) 13(2.25,-9.6) 14(2.75,-9.6) 15(3.25,-9.6) 16(3.75,-9.6) 17(3.75,9.59) 18(3.25,9.59) 19(2.75,9.59) 20(2.25,9.59) 21(1.75,9.59) 22(1.25,9.59) 23(0.75,9.59) 24(0.25,9.59) 25(-0.25,9.59) 26(-0.75,9.59) 27(-1.25,9.59) 28(-1.75,9.59) 29(-2.25,9.59) 30(-2.75,9.59) 31(-3.25,9.59) 32(-3.75,9.59)
Top Overlay:
  text "1" at -3.731,-8.48 h0.86
Mechanical 16:
  rectangle: -3.9,-10.1 -3.6,-9.25
  rectangle: -3.4,-10.1 -3.1,-9.25
  rectangle: -2.9,-10.1 -2.6,-9.25
  rectangle: -2.4,-10.1 -2.1,-9.25
  rectangle: -1.9,-10.1 -1.6,-9.25
  rectangle: -1.4,-10.1 -1.1,-9.25
  rectangle: -0.9,-10.1 -0.6,-9.25
  rectangle: -0.4,-10.1 -0.1,-9.25
  rectangle: 0.1,-10.1 0.4,-9.25
  rectangle: 0.6,-10.1 0.9,-9.25
  rectangle: 1.1,-10.1 1.4,-9.25
  rectangle: 1.6,-10.1 1.9,-9.25
  rectangle: 2.1,-10.1 2.4,-9.25
  rectangle: 2.6,-10.1 2.9,-9.25
  rectangle: 3.1,-10.1 3.4,-9.25
  rectangle: 3.6,-10.1 3.9,-9.25
  rectangle: 3.6,9.24 3.9,10.09
  rectangle: 3.1,9.24 3.4,10.09
  rectangle: 2.6,9.24 2.9,10.09
  rectangle: 2.1,9.24 2.4,10.09
  rectangle: 1.6,9.24 1.9,10.09
  rectangle: 1.1,9.24 1.4,10.09
  rectangle: 0.6,9.24 0.9,10.09
  rectangle: 0.1,9.24 0.4,10.09
  rectangle: -0.4,9.24 -0.1,10.09
  rectangle: -0.9,9.24 -0.6,10.09
  rectangle: -1.4,9.24 -1.1,10.09
  rectangle: -1.9,9.24 -1.6,10.09
  rectangle: -2.4,9.24 -2.1,10.09
  rectangle: -2.9,9.24 -2.6,10.09
  rectangle: -3.4,9.24 -3.1,10.09
  rectangle: -3.9,9.24 -3.6,10.09
  lines w0.203: -3.995,-9.195 3.995,-9.195 3.995,9.185 -3.995,9.185 -3.995,-9.195

## TSSOP8 [mm]
pads (8):
  rect 0.35x1 smd: 1(-0.975,-2.925) 2(-0.325,-2.925) 3(0.325,-2.925) 4(0.975,-2.925) 5(0.975,2.925) 6(0.325,2.925) 7(-0.325,2.925) 8(-0.975,2.925)
Top Overlay:
  circle w0.051: c-0.82,-1.565 r0.32
  lines w0.152: -1.475,-1.925 ccw(c-1.225,-1.925) -1.225,-2.175 ; -1.475,-1.915 -1.475,1.925 cw(c-1.225,1.925) -1.225,2.175 ; -1.235,2.175 1.215,2.175 ; -1.215,-2.175 1.235,-2.175 ; 1.225,-2.175 ccw(c1.225,-1.925) 1.475,-1.925 1.475,1.925 ccw(c1.225,1.925) 1.225,2.175
Top Solder:
  rectangle: -1.175,-3.475 -0.775,-2.4
  rectangle: -0.525,-3.475 -0.125,-2.4
  rectangle: 0.125,-3.475 0.525,-2.4
  rectangle: 0.775,-3.475 1.175,-2.4
  region: 1.175,3.475 0.775,3.475 0.775,2.4 1.175,2.4
  region: 0.525,3.475 0.125,3.475 0.125,2.4 0.525,2.4
  region: -0.125,3.475 -0.525,3.475 -0.525,2.4 -0.125,2.4
  region: -0.775,3.475 -1.175,3.475 -1.175,2.4 -0.775,2.4
Mechanical 16:
  rectangle: -1.125,-3.2 -0.825,-2.225
  rectangle: -0.475,-3.2 -0.175,-2.225
  rectangle: 0.175,-3.2 0.475,-2.225
  rectangle: 0.825,-3.2 1.125,-2.225
  region: 1.125,3.2 0.825,3.2 0.825,2.225 1.125,2.225
  region: 0.475,3.2 0.175,3.2 0.175,2.225 0.475,2.225
  region: -0.175,3.2 -0.475,3.2 -0.475,2.225 -0.175,2.225
  region: -0.825,3.2 -1.125,3.2 -1.125,2.225 -0.825,2.225

## TSSOP20 [mil]
pads (20):
  rect 12x39 smd: 1(-115.16,-114.87) 2(-89.57,-114.87) 3(-63.98,-114.87) 4(-38.39,-114.87) 5(-12.8,-114.87) 6(12.8,-114.87) 7(38.39,-114.87) 8(63.98,-114.87) 9(89.57,-114.87) 10(115.16,-114.87) 11(115.16,114.87) 12(89.57,114.87) 13(63.98,114.87) 14(38.39,114.87) 15(12.8,114.87) 16(-12.8,114.87) 17(-38.39,114.87) 18(-63.98,114.87) 19(-89.57,114.87) 20(-115.16,114.87)
Top Overlay:
  circle w6: c-89.59,-48 r18
  lines w2: -115.59,-80.87 115.59,-80.87 115.59,80.87 -115.59,80.87 -115.59,-80.87
  lines w6: -124.59,-89.87 124.59,-89.87 124.59,89.87 -124.59,89.87 -124.59,-89.87
Mechanical 16:
  rectangle: -119.16,-122.87 -111.16,-89.87
  rectangle: -93.57,-122.87 -85.57,-89.87
  rectangle: -67.98,-122.87 -59.98,-89.87
  rectangle: -42.39,-122.87 -34.39,-89.87
  rectangle: -16.8,-122.87 -8.8,-89.87
  rectangle: 8.8,-122.87 16.8,-89.87
  rectangle: 34.39,-122.87 42.39,-89.87
  rectangle: 59.98,-122.87 67.98,-89.87
  rectangle: 85.57,-122.87 93.57,-89.87
  rectangle: 111.16,-122.87 119.16,-89.87
  rectangle: 111.16,89.87 119.16,122.87
  rectangle: 85.57,89.87 93.57,122.87
  rectangle: 59.98,89.87 67.98,122.87
  rectangle: 34.39,89.87 42.39,122.87
  rectangle: 8.8,89.87 16.8,122.87
  rectangle: -16.8,89.87 -8.8,122.87
  rectangle: -42.39,89.87 -34.39,122.87
  rectangle: -67.98,89.87 -59.98,122.87
  rectangle: -93.57,89.87 -85.57,122.87
  rectangle: -119.16,89.87 -111.16,122.87

## VDFN-8 [mm]
pads (9):
  rrect100% 1.1x0.6 smd: 1(-2.675,1.5) 2(-2.675,0.5) 3(-2.675,-0.5) 4(-2.675,-1.5) 5(2.675,-1.5) 6(2.675,-0.5) 7(2.675,0.5) 8(2.675,1.5)
  rrect5% 3.6x4.2 smd: 9(0,0)
Top Overlay:
  lines w0.203: -2.9,-2.4 2.9,-2.4 ; -2.9,2.4 2.9,2.4
Top Paste:
  rectangle: -1.3,-1.7 1.3,1.7
Top Solder:
  region: 0,0 0.254,0 0.254,0.254 0,0.254
Mechanical 16:
  circle w0: c-1.5,1.5 r0.35
  lines w0.203: -2.9,-2.4 -2.9,2.4 ; 2.9,-2.4 2.9,2.4

## VQFP32 [mm]
pads (32):
  rect 1x0.45 smd: 1(-4.15,2.8) 2(-4.15,2) 3(-4.15,1.2) 4(-4.15,0.4) 5(-4.15,-0.4) 6(-4.15,-1.2) 7(-4.15,-2) 8(-4.15,-2.8) 17(4.15,-2.8) 18(4.15,-2) 19(4.15,-1.2) 20(4.15,-0.4) 21(4.15,0.4) 22(4.15,1.2) 23(4.15,2) 24(4.15,2.8)
  rect 0.45x1 smd: 9(-2.8,-4.15) 10(-2,-4.15) 11(-1.2,-4.15) 12(-0.4,-4.15) 13(0.4,-4.15) 14(1.2,-4.15) 15(2,-4.15) 16(2.8,-4.15) 25(2.8,4.15) 26(2,4.15) 27(1.2,4.15) 28(0.4,4.15) 29(-0.4,4.15) 30(-1.2,4.15) 31(-2,4.15) 32(-2.8,4.15)
Top Overlay:
  circle w0: c-2.8,2.8 r0.2
  lines w0.102: -3.45,-3.45 3.45,-3.45 3.45,3.45 -3.1,3.45 -3.45,3.1 -3.45,-3.45
Mechanical 16:
  rectangle: -4.5,2.575 -3.5,3.025
  rectangle: -4.5,1.775 -3.5,2.225
  rectangle: -4.5,0.975 -3.5,1.425
  rectangle: -4.5,0.175 -3.5,0.625
  rectangle: -4.5,-0.625 -3.5,-0.175
  rectangle: -4.5,-1.425 -3.5,-0.975
  rectangle: -4.5,-2.225 -3.5,-1.775
  rectangle: -4.5,-3.025 -3.5,-2.575
  region: -2.575,-4.5 -2.575,-3.5 -3.025,-3.5 -3.025,-4.5
  region: -1.775,-4.5 -1.775,-3.5 -2.225,-3.5 -2.225,-4.5
  region: -0.975,-4.5 -0.975,-3.5 -1.425,-3.5 -1.425,-4.5
  region: -0.175,-4.5 -0.175,-3.5 -0.625,-3.5 -0.625,-4.5
  region: 0.625,-4.5 0.625,-3.5 0.175,-3.5 0.175,-4.5
  region: 1.425,-4.5 1.425,-3.5 0.975,-3.5 0.975,-4.5
  region: 2.225,-4.5 2.225,-3.5 1.775,-3.5 1.775,-4.5
  region: 3.025,-4.5 3.025,-3.5 2.575,-3.5 2.575,-4.5
  region: 4.5,-2.575 3.5,-2.575 3.5,-3.025 4.5,-3.025
  region: 4.5,-1.775 3.5,-1.775 3.5,-2.225 4.5,-2.225
  region: 4.5,-0.975 3.5,-0.975 3.5,-1.425 4.5,-1.425
  region: 4.5,-0.175 3.5,-0.175 3.5,-0.625 4.5,-0.625
  region: 4.5,0.625 3.5,0.625 3.5,0.175 4.5,0.175
  region: 4.5,1.425 3.5,1.425 3.5,0.975 4.5,0.975
  region: 4.5,2.225 3.5,2.225 3.5,1.775 4.5,1.775
  region: 4.5,3.025 3.5,3.025 3.5,2.575 4.5,2.575
  region: 2.575,4.5 2.575,3.5 3.025,3.5 3.025,4.5
  region: 1.775,4.5 1.775,3.5 2.225,3.5 2.225,4.5
  region: 0.975,4.5 0.975,3.5 1.425,3.5 1.425,4.5
  region: 0.175,4.5 0.175,3.5 0.625,3.5 0.625,4.5
  region: -0.625,4.5 -0.625,3.5 -0.175,3.5 -0.175,4.5
  region: -1.425,4.5 -1.425,3.5 -0.975,3.5 -0.975,4.5
  region: -2.225,4.5 -2.225,3.5 -1.775,3.5 -1.775,4.5
  region: -3.025,4.5 -3.025,3.5 -2.575,3.5 -2.575,4.5

## VQFP64 [mm]
pads (64):
  rect 1x0.3 smd: 1(-5.7,3.75) 2(-5.7,3.25) 3(-5.7,2.75) 4(-5.7,2.25) 5(-5.7,1.75) 6(-5.7,1.25) 7(-5.7,0.75) 8(-5.7,0.25) 9(-5.7,-0.25) 10(-5.7,-0.75) 11(-5.7,-1.25) 12(-5.7,-1.75) 13(-5.7,-2.25) 14(-5.7,-2.75) 15(-5.7,-3.25) 16(-5.7,-3.75) 33(5.7,-3.75) 34(5.7,-3.25) 35(5.7,-2.75) 36(5.7,-2.25) 37(5.7,-1.75) 38(5.7,-1.25) 39(5.7,-0.75) 40(5.7,-0.25) 41(5.7,0.25) 42(5.7,0.75) 43(5.7,1.25) 44(5.7,1.75) 45(5.7,2.25) 46(5.7,2.75) 47(5.7,3.25) 48(5.7,3.75)
  rect 0.3x1 smd: 17(-3.75,-5.7) 18(-3.25,-5.7) 19(-2.75,-5.7) 20(-2.25,-5.7) 21(-1.75,-5.7) 22(-1.25,-5.7) 23(-0.75,-5.7) 24(-0.25,-5.7) 25(0.25,-5.7) 26(0.75,-5.7) 27(1.25,-5.7) 28(1.75,-5.7) 29(2.25,-5.7) 30(2.75,-5.7) 31(3.25,-5.7) 32(3.75,-5.7) 49(3.75,5.7) 50(3.25,5.7) 51(2.75,5.7) 52(2.25,5.7) 53(1.75,5.7) 54(1.25,5.7) 55(0.75,5.7) 56(0.25,5.7) 57(-0.25,5.7) 58(-0.75,5.7) 59(-1.25,5.7) 60(-1.75,5.7) 61(-2.25,5.7) 62(-2.75,5.7) 63(-3.25,5.7) 64(-3.75,5.7)
Top Overlay:
  lines w0.203: -4.95,-4.95 4.95,-4.95 4.95,4.95 -4.15,4.95 -4.95,4.15 -4.95,-4.95
Top Solder:
  rectangle: -6.225,3.575 -5.175,3.925
  rectangle: -6.225,3.075 -5.175,3.425
  rectangle: -6.225,2.575 -5.175,2.925
  rectangle: -6.225,2.075 -5.175,2.425
  rectangle: -6.225,1.575 -5.175,1.925
  rectangle: -6.225,1.075 -5.175,1.425
  rectangle: -6.225,0.575 -5.175,0.925
  rectangle: -6.225,0.075 -5.175,0.425
  rectangle: -6.225,-0.425 -5.175,-0.075
  rectangle: -6.225,-0.925 -5.175,-0.575
  rectangle: -6.225,-1.425 -5.175,-1.075
  rectangle: -6.225,-1.925 -5.175,-1.575
  rectangle: -6.225,-2.425 -5.175,-2.075
  rectangle: -6.225,-2.925 -5.175,-2.575
  rectangle: -6.225,-3.425 -5.175,-3.075
  rectangle: -6.225,-3.925 -5.175,-3.575
  region: -3.575,-6.225 -3.575,-5.175 -3.925,-5.175 -3.925,-6.225
  region: -3.075,-6.225 -3.075,-5.175 -3.425,-5.175 -3.425,-6.225
  region: -2.575,-6.225 -2.575,-5.175 -2.925,-5.175 -2.925,-6.225
  region: -2.075,-6.225 -2.075,-5.175 -2.425,-5.175 -2.425,-6.225
  region: -1.575,-6.225 -1.575,-5.175 -1.925,-5.175 -1.925,-6.225
  region: -1.075,-6.225 -1.075,-5.175 -1.425,-5.175 -1.425,-6.225
  region: -0.575,-6.225 -0.575,-5.175 -0.925,-5.175 -0.925,-6.225
  region: -0.075,-6.225 -0.075,-5.175 -0.425,-5.175 -0.425,-6.225
  region: 0.425,-6.225 0.425,-5.175 0.075,-5.175 0.075,-6.225
  region: 0.925,-6.225 0.925,-5.175 0.575,-5.175 0.575,-6.225
  region: 1.425,-6.225 1.425,-5.175 1.075,-5.175 1.075,-6.225
  region: 1.925,-6.225 1.925,-5.175 1.575,-5.175 1.575,-6.225
  region: 2.425,-6.225 2.425,-5.175 2.075,-5.175 2.075,-6.225
  region: 2.925,-6.225 2.925,-5.175 2.575,-5.175 2.575,-6.225
  region: 3.425,-6.225 3.425,-5.175 3.075,-5.175 3.075,-6.225
  region: 3.925,-6.225 3.925,-5.175 3.575,-5.175 3.575,-6.225
  region: 6.225,-3.575 5.175,-3.575 5.175,-3.925 6.225,-3.925
  region: 6.225,-3.075 5.175,-3.075 5.175,-3.425 6.225,-3.425
  region: 6.225,-2.575 5.175,-2.575 5.175,-2.925 6.225,-2.925
  region: 6.225,-2.075 5.175,-2.075 5.175,-2.425 6.225,-2.425
  region: 6.225,-1.575 5.175,-1.575 5.175,-1.925 6.225,-1.925
  region: 6.225,-1.075 5.175,-1.075 5.175,-1.425 6.225,-1.425
  region: 6.225,-0.575 5.175,-0.575 5.175,-0.925 6.225,-0.925
  region: 6.225,-0.075 5.175,-0.075 5.175,-0.425 6.225,-0.425
  region: 6.225,0.425 5.175,0.425 5.175,0.075 6.225,0.075
  region: 6.225,0.925 5.175,0.925 5.175,0.575 6.225,0.575
  region: 6.225,1.425 5.175,1.425 5.175,1.075 6.225,1.075
  region: 6.225,1.925 5.175,1.925 5.175,1.575 6.225,1.575
  region: 6.225,2.425 5.175,2.425 5.175,2.075 6.225,2.075
  region: 6.225,2.925 5.175,2.925 5.175,2.575 6.225,2.575
  region: 6.225,3.425 5.175,3.425 5.175,3.075 6.225,3.075
  region: 6.225,3.925 5.175,3.925 5.175,3.575 6.225,3.575
  region: 3.575,6.225 3.575,5.175 3.925,5.175 3.925,6.225
  region: 3.075,6.225 3.075,5.175 3.425,5.175 3.425,6.225
  region: 2.575,6.225 2.575,5.175 2.925,5.175 2.925,6.225
  region: 2.075,6.225 2.075,5.175 2.425,5.175 2.425,6.225
  region: 1.575,6.225 1.575,5.175 1.925,5.175 1.925,6.225
  region: 1.075,6.225 1.075,5.175 1.425,5.175 1.425,6.225
  region: 0.575,6.225 0.575,5.175 0.925,5.175 0.925,6.225
  region: 0.075,6.225 0.075,5.175 0.425,5.175 0.425,6.225
  region: -0.425,6.225 -0.425,5.175 -0.075,5.175 -0.075,6.225
  region: -0.925,6.225 -0.925,5.175 -0.575,5.175 -0.575,6.225
  region: -1.425,6.225 -1.425,5.175 -1.075,5.175 -1.075,6.225
  region: -1.925,6.225 -1.925,5.175 -1.575,5.175 -1.575,6.225
  region: -2.425,6.225 -2.425,5.175 -2.075,5.175 -2.075,6.225
  region: -2.925,6.225 -2.925,5.175 -2.575,5.175 -2.575,6.225
  region: -3.425,6.225 -3.425,5.175 -3.075,5.175 -3.075,6.225
  region: -3.925,6.225 -3.925,5.175 -3.575,5.175 -3.575,6.225
Mechanical 16:
  rectangle: -6.125,3.625 -5.025,3.875
  rectangle: -6.125,3.125 -5.025,3.375
  rectangle: -6.125,2.625 -5.025,2.875
  rectangle: -6.125,2.125 -5.025,2.375
  rectangle: -6.125,1.625 -5.025,1.875
  rectangle: -6.125,1.125 -5.025,1.375
  rectangle: -6.125,0.625 -5.025,0.875
  rectangle: -6.125,0.125 -5.025,0.375
  rectangle: -6.125,-0.375 -5.025,-0.125
  rectangle: -6.125,-0.875 -5.025,-0.625
  rectangle: -6.125,-1.375 -5.025,-1.125
  rectangle: -6.125,-1.875 -5.025,-1.625
  rectangle: -6.125,-2.375 -5.025,-2.125
  rectangle: -6.125,-2.875 -5.025,-2.625
  rectangle: -6.125,-3.375 -5.025,-3.125
  rectangle: -6.125,-3.875 -5.025,-3.625
  region: -3.625,-6.125 -3.625,-5.025 -3.875,-5.025 -3.875,-6.125
  region: -3.125,-6.125 -3.125,-5.025 -3.375,-5.025 -3.375,-6.125
  region: -2.625,-6.125 -2.625,-5.025 -2.875,-5.025 -2.875,-6.125
  region: -2.125,-6.125 -2.125,-5.025 -2.375,-5.025 -2.375,-6.125
  region: -1.625,-6.125 -1.625,-5.025 -1.875,-5.025 -1.875,-6.125
  region: -1.125,-6.125 -1.125,-5.025 -1.375,-5.025 -1.375,-6.125
  region: -0.625,-6.125 -0.625,-5.025 -0.875,-5.025 -0.875,-6.125
  region: -0.125,-6.125 -0.125,-5.025 -0.375,-5.025 -0.375,-6.125
  region: 0.375,-6.125 0.375,-5.025 0.125,-5.025 0.125,-6.125
  region: 0.875,-6.125 0.875,-5.025 0.625,-5.025 0.625,-6.125
  region: 1.375,-6.125 1.375,-5.025 1.125,-5.025 1.125,-6.125
  region: 1.875,-6.125 1.875,-5.025 1.625,-5.025 1.625,-6.125
  region: 2.375,-6.125 2.375,-5.025 2.125,-5.025 2.125,-6.125
  region: 2.875,-6.125 2.875,-5.025 2.625,-5.025 2.625,-6.125
  region: 3.375,-6.125 3.375,-5.025 3.125,-5.025 3.125,-6.125
  region: 3.875,-6.125 3.875,-5.025 3.625,-5.025 3.625,-6.125
  region: 6.125,-3.625 5.025,-3.625 5.025,-3.875 6.125,-3.875
  region: 6.125,-3.125 5.025,-3.125 5.025,-3.375 6.125,-3.375
  region: 6.125,-2.625 5.025,-2.625 5.025,-2.875 6.125,-2.875
  region: 6.125,-2.125 5.025,-2.125 5.025,-2.375 6.125,-2.375
  region: 6.125,-1.625 5.025,-1.625 5.025,-1.875 6.125,-1.875
  region: 6.125,-1.125 5.025,-1.125 5.025,-1.375 6.125,-1.375
  region: 6.125,-0.625 5.025,-0.625 5.025,-0.875 6.125,-0.875
  region: 6.125,-0.125 5.025,-0.125 5.025,-0.375 6.125,-0.375
  region: 6.125,0.375 5.025,0.375 5.025,0.125 6.125,0.125
  region: 6.125,0.875 5.025,0.875 5.025,0.625 6.125,0.625
  region: 6.125,1.375 5.025,1.375 5.025,1.125 6.125,1.125
  region: 6.125,1.875 5.025,1.875 5.025,1.625 6.125,1.625
  region: 6.125,2.375 5.025,2.375 5.025,2.125 6.125,2.125
  region: 6.125,2.875 5.025,2.875 5.025,2.625 6.125,2.625
  region: 6.125,3.375 5.025,3.375 5.025,3.125 6.125,3.125
  region: 6.125,3.875 5.025,3.875 5.025,3.625 6.125,3.625
  region: 3.625,6.125 3.625,5.025 3.875,5.025 3.875,6.125
  region: 3.125,6.125 3.125,5.025 3.375,5.025 3.375,6.125
  region: 2.625,6.125 2.625,5.025 2.875,5.025 2.875,6.125
  region: 2.125,6.125 2.125,5.025 2.375,5.025 2.375,6.125
  region: 1.625,6.125 1.625,5.025 1.875,5.025 1.875,6.125
  region: 1.125,6.125 1.125,5.025 1.375,5.025 1.375,6.125
  region: 0.625,6.125 0.625,5.025 0.875,5.025 0.875,6.125
  region: 0.125,6.125 0.125,5.025 0.375,5.025 0.375,6.125
  region: -0.375,6.125 -0.375,5.025 -0.125,5.025 -0.125,6.125
  region: -0.875,6.125 -0.875,5.025 -0.625,5.025 -0.625,6.125
  region: -1.375,6.125 -1.375,5.025 -1.125,5.025 -1.125,6.125
  region: -1.875,6.125 -1.875,5.025 -1.625,5.025 -1.625,6.125
  region: -2.375,6.125 -2.375,5.025 -2.125,5.025 -2.125,6.125
  region: -2.875,6.125 -2.875,5.025 -2.625,5.025 -2.625,6.125
  region: -3.375,6.125 -3.375,5.025 -3.125,5.025 -3.125,6.125
  region: -3.875,6.125 -3.875,5.025 -3.625,5.025 -3.625,6.125